# Altium footprint library IND_0806.PcbLib: 1 footprints
Each footprint in its own frame and in the unit in brackets; x right, y up, seen from the top. Pads: shape width x height; smd on the part's side, far side on the other; paste and mask are expansions set on the pad; w line width, h text height; cw(c..) or ccw(c..) is an arc to the next point about the centre after c.
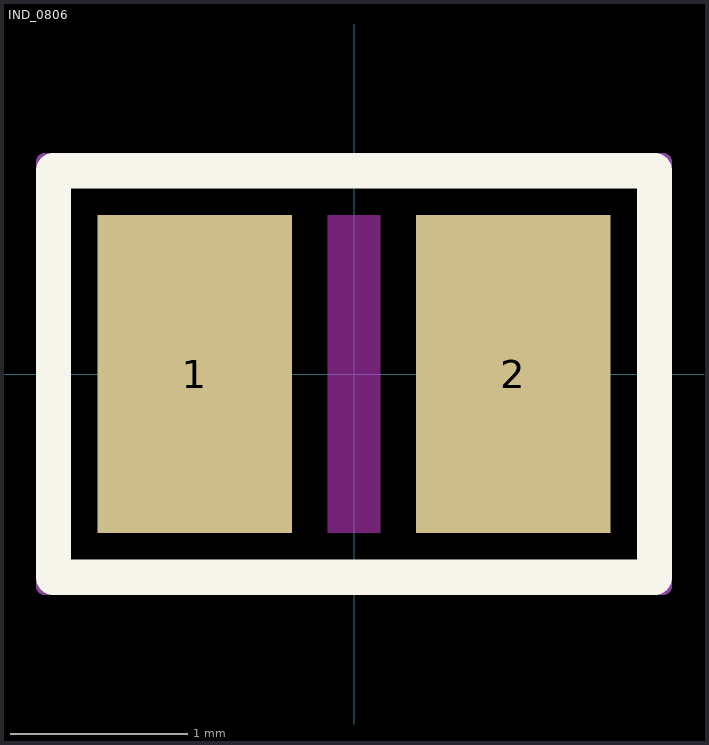
[diagram p0: the footprint, top view; thin cyan lines are the x and y axes]

## IND_0806 [mm]
pads (2):
  rect 1.1x1.8 smd: 1(-0.9,0) 2(0.9,0)
Top Layer keep-out:
  rectangle: -0.15,-0.9 0.15,0.9
Top Overlay:
  lines w0.2: -1.7,-1.15 1.7,-1.15 1.7,1.15 -1.7,1.15 -1.7,-1.15
Top Courtyard:
  lines w0.1: -1.75,-1.2 1.75,-1.2 1.75,1.2 -1.75,1.2 -1.75,-1.2
3D body "IND_IHHP-0806ZH-01_VIS.step": height 0.76, standoff 0.02, extent -1.105,-0.878 1.105,0.878